# Altium schematic symbol library Lib.SchLib: 18 symbols
Pins are listed as number, name and electrical type; pins without a type are passive.

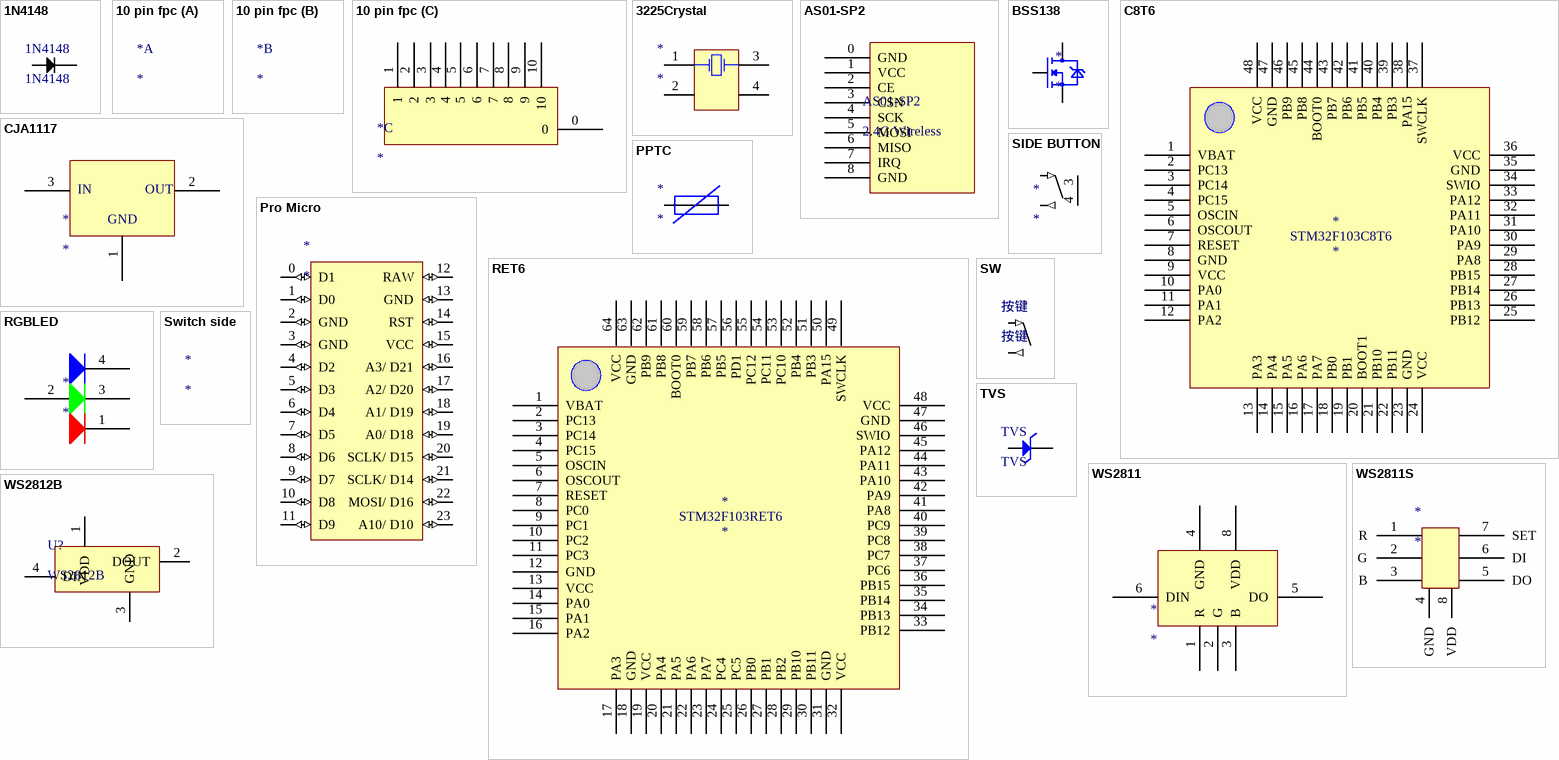
[diagram p0: symbols 1N4148 to WS2812B]

## 1N4148
designator 1N4148
footprint C1206 (Chip Capacitor, Body 3.2x1.6mm, IPC High Density)
pins: 1, 2

## 10 pin fpc
designator *
footprint 10pin FPC
part C pins: 0, 1, 2, 3, 4, 5, 6, 7, 8, 9, 10

## 3225Crystal
designator *
footprint 3225
pins: 1 OSC1, 2 NC, 3 OSC2, 4 NC

## AS01-SP2
designator AS01-SP2, comment 2.4G Wireless
footprint AS01-SP2
pins: 0 GND, 1 VCC, 2 CE, 3 CSN, 4 SCK, 5 MOSI, 6 MISO, 7 IRQ, 8 GND

## BSS138
designator *
footprint 3528 - DL
footprint SOT23
pins: 1, 2, 3

## C8T6
designator *
footprint STM-LQFP48_L (QFP, 48-Leads, Body 7x7mm, Pitch 0.5mm, IPC High Density)
footprint STM-LQFP48_M (QFP, 48-Leads, Body 7x7mm, Pitch 0.5mm, IPC Low Density)
footprint STM-LQFP48_N (QFP, 48-Leads, Body 7x7mm, Pitch 0.5mm, IPC Medium Density)
pins: 1 VBAT, 2 PC13, 3 PC14, 4 PC15, 5 OSCIN, 6 OSCOUT, 7 RESET, 8 GND, 9 VCC, 10 PA0, 11 PA1, 12 PA2, 13 PA3, 14 PA4, 15 PA5, 16 PA6, 17 PA7, 18 PB0, 19 PB1, 20 BOOT1, 21 PB10, 22 PB11, 23 GND, 24 VCC, 25 PB12, 26 PB13, 27 PB14, 28 PB15, 29 PA8, 30 PA9, 31 PA10, 32 PA11, 33 PA12, 34 SWIO, 35 GND, 36 VCC, 37 SWCLK, 38 PA15, 39 PB3, 40 PB4, 41 PB5, 42 PB6, 43 PB7, 44 BOOT0, 45 PB8, 46 PB9, 47 GND, 48 VCC
text: STM32F103C8T6

## CJA1117
designator *
footprint SOT89-3L
pins: 1, 2, 3
text: IN; OUT; GND

## PPTC
designator *
footprint C1206 (Chip Capacitor, Body 3.2x1.6mm, IPC High Density)

## Pro Micro
designator *
pins: 0 D1 (io), 1 D0 (io), 2 GND (io), 3 GND (io), 4 D2 (io), 5 D3 (io), 6 D4 (io), 7 D5 (io), 8 D6 (io), 9 D7 (io), 10 D8 (io), 11 D9 (io), 12 RAW (io), 13 GND (io), 14 RST (io), 15 VCC (io), 16 A3/ D21 (io), 17 A2/ D20 (io), 18 A1/ D19 (io), 19 A0/ D18 (io), 20 SCLK/ D15 (io), 21 SCLK/ D14 (io), 22 MOSI/ D16 (io), 23 A10/ D10 (io)

## RET6
designator *
footprint STM-LQFP64_V (Thin QFP, 64-Leads, Body 10x10mm, Pitch 0.5mm, ST Recommended)
footprint STM-LQFP64_L (Thin QFP, 64-Leads, Body 10x10mm, Pitch 0.5mm, IPC High Density)
footprint STM-LQFP64_M (Thin QFP, 64-Leads, Body 10x10mm, Pitch 0.5mm, IPC Low Density)
footprint STM-LQFP64_N (Thin QFP, 64-Leads, Body 10x10mm, Pitch 0.5mm, IPC Medium Density)
pins: 1 VBAT, 2 PC13, 3 PC14, 4 PC15, 5 OSCIN, 6 OSCOUT, 7 RESET, 8 PC0, 9 PC1, 10 PC2, 11 PC3, 12 GND, 13 VCC, 14 PA0, 15 PA1, 16 PA2, 17 PA3, 18 GND, 19 VCC, 20 PA4, 21 PA5, 22 PA6, 23 PA7, 24 PC4, 25 PC5, 26 PB0, 27 PB1, 28 PB2, 29 PB10, 30 PB11, 31 GND, 32 VCC, 33 PB12, 34 PB13, 35 PB14, 36 PB15, 37 PC6, 38 PC7, 39 PC8, 40 PC9, 41 PA8, 42 PA9, 43 PA10, 44 PA11, 45 PA12, 46 SWIO, 47 GND, 48 VCC, 49 SWCLK, 50 PA15, 51 PB3, 52 PB4, 53 PC10, 54 PC11, 55 PC12, 56 PD1, 57 PB5, 58 PB6, 59 PB7, 60 BOOT0, 61 PB8, 62 PB9, 63 GND, 64 VCC
text: STM32F103RET6

## RGBLED
designator *
footprint 3528
footprint 3528 - DL
pins: 1, 2 A, 3 G, 4

## SIDE BUTTON
designator *
footprint SIDE SWITCH
pins: 1 (in), 2 Out (out), 3, 4

## SW
designator 按键, comment 按键
footprint PAD
footprint OBSF24
footprint QUNBA
footprint QUNBA no hole
footprint D2LS
footprint SW4X4
footprint sw5x5
pins: 1 (in), 2 Out (out)

## Switch side
designator *

## TVS
designator TVS
footprint SOD323
pins: 1, 2

## WS2811
designator *
footprint SOP8
pins: 1 R, 2 G, 3 B, 4 GND, 5 DO, 6 DIN, 8 VDD

## WS2811S
designator *
footprint SO8_M (SOIC, 8-Leads, Body 4.9x3.9mm, Pitch 1.27mm, IPC Low Density)
pins: 1 R, 2 G, 3 B, 4 GND, 5 DO, 6 DI, 7 SET, 8 VDD

## WS2812B
designator U?
3535
footprint WS2812B-3535 (3535)
footprint WS2812B-3535 dual (3535)
footprint WS2812B (3535)
pins: 1 VDD, 2 DOUT, 3 GND, 4 DIN